# Altium footprint library DIP8_T.PcbLib: 1 footprints
Each footprint in its own frame and in the unit in brackets; x right, y up, seen from the top. Pads: shape width x height; smd on the part's side, far side on the other; paste and mask are expansions set on the pad; w line width, h text height; cw(c..) or ccw(c..) is an arc to the next point about the centre after c.
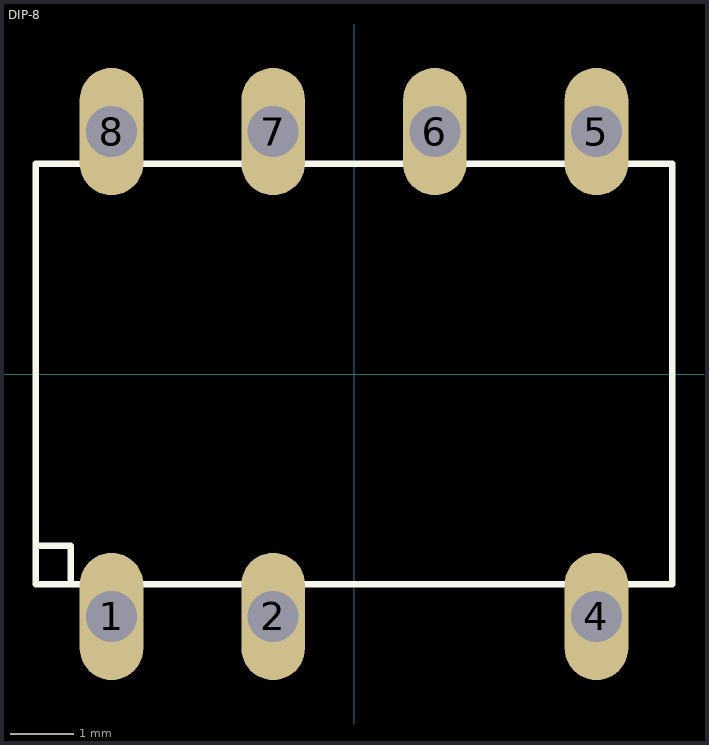
[diagram p0: the footprint, top view; thin cyan lines are the x and y axes]

## DIP-8 [mm]
height 3.81
pads (7):
  oval 1x2 hole 0.8: 1(-3.81,-3.81) 2(-1.27,-3.81) 4(3.81,-3.81) 5(3.81,3.81) 6(1.27,3.81) 7(-1.27,3.81) 8(-3.81,3.81)
Top Overlay:
  lines w0.1: -5,-2.7 -4.45,-2.7 -4.45,-3.302 ; -5,-3.302 -5,3.302 5,3.302 5,-3.302 -5,-3.302
3D body: height 4.5, standoff -3.5, extent -5.4,-3.88 5.4,3.88